# EAGLE library part 691325110006 (library Wuerth_Elektronik_eiCan_Terminal_Blocks_v2.0)
WR-TBL Serie 3251 - 3.5mm Horizontal PCB Header with Flanges , 6 Pins
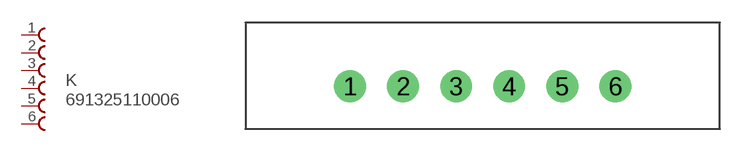
[diagram p15: symbol with the pads of 691325110006; footprint 691325110006]

Designator prefix K

## 691325110006  [691325110006]
1  1  pas
2  2  pas
3  3  pas
4  4  pas
5  5  pas
6  6  pas

## Footprint 691325110006 (pad centres in mm)
WR-TBL Serie 3251 - 3.5mm Horizontal PCB Header with Flanges , 6 Pins
drill 1.4 round: 1 -10.5,0; 2 -7,0; 3 -3.5,0; 4 0,0; 5 3.5,0; 6 7,0